# Altium schematic symbol library VBlib_Quartzes.SchLib: 8 symbols
Pins are listed as number, name and electrical type; pins without a type are passive.

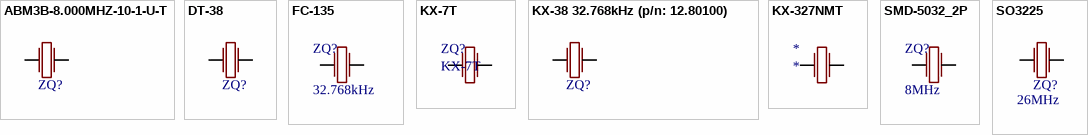
[diagram p0: symbols ABM3B-8.000MHZ-10-1-U-T to SO3225]

## ABM3B-8.000MHZ-10-1-U-T
designator ZQ?  (value not drawn)
QUARZ, 8МГц (Abracon)
footprint ABM3B (Площадка для кварцевого резонатора Abracon, монтаж на поверхность 4 конт. Корпус 5х3.2мм.)
pins: 1, 2 (power) hidden to GND "GND", 2 (power) hidden to GND "GND", 3, 4 (power) hidden to GND "GND", 4 (power) hidden to GND "GND"

## DT-38
designator ZQ?, comment 32.768kHz  (value not drawn)
Quartz, DT-38 Series, 32.768kHz, 12.5pF
footprint KX-38 (Площадка для кварцевого резонатора типа 3х8мм)
footprint KX-38(SMD) (Площадка для кварцевого резонатора типа 3х8мм, монтаж на поверхность)
pins: 1, 2

## FC-135
designator ZQ?, comment FC-135 32.768000kHz 12.5 +20.0-20.0  (value not drawn)
Quartz 32.768kHz 12.5pF 20ppm
footprint KX-327NHT
pins: 1, 2
text: 32.768kHz

## KX-7T
designator ZQ?
26.0 MHz 10ppm, 10pF, -40:+85°С
footprint KX-7T
pins: 1, 3

## KX-38 32.768kHz (p/n: 12.80100)
designator ZQ?  (value not drawn)
Кварцевый резонатор часовой 32.768кГц (Geyer)
footprint KX-38 (Площадка для кварцевого резонатора типа 3х8мм)
footprint KX-38(SMD) (Площадка для кварцевого резонатора типа 3х8мм, монтаж на поверхность)
pins: 1, 2

## KX-327NMT
designator *
Quartz 32.768kHz
footprint KX-327NHT
pins: 1, 2

## SMD-5032_2P
designator ZQ?, comment Frequency: 8MHz  (hidden comment: 8M 20pF 30ppm)
QUARZ, 8МHz, 20pF, 30ppm (Shenzhen Yajingxin Electron Co.,Ltd)
footprint SMD-5032
pins: 1, 2

## SO3225
designator ZQ?  Frequency: 26MHz  (hidden comment: SO3225)
QUARZ, 26МHz, 10ppm, 15pF
footprint SO3225 (Площадка для кварцевого резонатора Abracon, монтаж на поверхность 4 конт. Корпус 5х3.2мм.)
footprint SO3225 (0LD) (Площадка для кварцевого резонатора Abracon, монтаж на поверхность 4 конт. Корпус 5х3.2мм.)
pins: 1, 2 (power) hidden to GND "GND", 2 (power) hidden to GND "GND", 3, 4 (power) hidden to GND "GND", 4 (power) hidden to GND "GND"